# Altium integrated library Cap.IntLib: 84 symbols
Pins are listed as number, name and electrical type; pins without a type are passive.

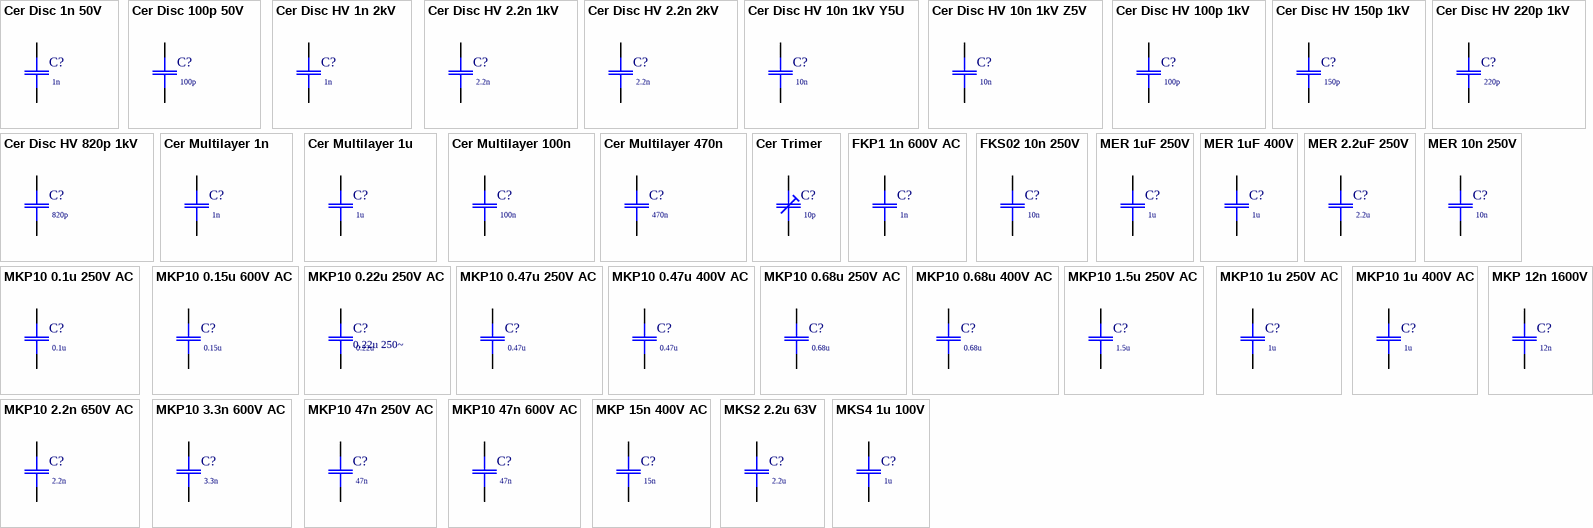
[diagram p0: symbols Cer Disc 1n 50V to MKS4 1u 100V]

## Cer Disc 1n 50V
designator C?, comment 1n
NPO +/- 60pp/C; Tip: Suntan TS15 1nF 50V NPO; Price: 0.072; Value: 1n
footprint Cap-Disk-D5.5-R2.54
simulation model C (Capacitor)
signal-integrity model C
pins: 1, 2
1 alternate drawing of the same symbol

## Cer Disc 100p 50V
designator C?, comment 100p
100p 50V NP0 +/- 60pp; Tip: Suntan TS15 100pF 50V NP0; Price: 0.072; Value: 100p
footprint Cap-Disk-D5.5-R5.08
simulation model C (Capacitor)
signal-integrity model C
pins: 1, 2
1 alternate drawing of the same symbol

## Cer Disc HV 1n 2kV
designator C?, comment 1n
1n 2kV Y5P; Tip: Suntan TS16 1nF 2kV Y5P; Price: 0.072; Value: 1n
footprint Cap-Disk-d8.5-R5.08
simulation model C (Capacitor)
signal-integrity model C
pins: 1, 2
1 alternate drawing of the same symbol

## Cer Disc HV 2.2n 1kV
designator C?, comment 2.2n
2.2n 1kV Y5P; Tip: Suntan TS16 2.2nF 1kV Y5P; Price: 0.072; Value: 2.2n
footprint Cap-Disk-d8.5-R5.08
simulation model C (Capacitor)
signal-integrity model C (Model Description)
pins: 1, 2
1 alternate drawing of the same symbol

## Cer Disc HV 2.2n 2kV
designator C?, comment 2.2n
2.2n 2kV Y5P; Tip: Suntan TS16 2.2nF 2kV Y5P; Price: 0.072; Value: 2.2n
footprint Cer-Disk-D8-R7.62
simulation model C (Capacitor)
signal-integrity model C
pins: 1, 2
1 alternate drawing of the same symbol

## Cer Disc HV 10n 1kV Y5U
designator C?, comment 10n
10n 1kV Y5U; Tip: Suntan TS16 10nF 1kV Y5U; Price: 0.072; Value: 10n
footprint Cer-Disk-d12.5-R7.62
simulation model C (Capacitor)
signal-integrity model C
pins: 1, 2
1 alternate drawing of the same symbol

## Cer Disc HV 10n 1kV Z5V
designator C?, comment 10n
10n 1kV Z5V; Tip: Suntan 10nF 1kV Z5V; Price: 0.072; Value: 10n
footprint Cap-Disk-d8.5-R5.08
simulation model C (Model Description)
signal-integrity model C
pins: 1, 2
1 alternate drawing of the same symbol

## Cer Disc HV 100p 1kV
designator C?, comment 100p
100p 1kV Y5P; Tip: Suntan TS16 100pF 1kV Y5P; Price: 0.072; Value: 100p
footprint Cap-Disk-D5.5-R5.08
simulation model C (Capacitor)
signal-integrity model C
pins: 1, 2
1 alternate drawing of the same symbol

## Cer Disc HV 150p 1kV
designator C?, comment 150p
150p 1kV Y5P; Tip: Suntan TS16 150pF 1kV Y5P; Price: 0.072; Value: 150p
footprint Cap-Disk-D5.5-R5.08
simulation model C (Capacitor)
signal-integrity model C (Model Description)
pins: 1, 2
1 alternate drawing of the same symbol

## Cer Disc HV 220p 1kV
designator C?, comment 220p
220p 1kV Y5P; Tip: Suntan TS16 220pF 1kV Y5P; Price: 0.072; Value: 220p
footprint Cap-Disk-D5.5-R5.08
simulation model C (Capacitor)
signal-integrity model C (Capacitor)
pins: 1, 2
1 alternate drawing of the same symbol

## Cer Disc HV 820p 1kV
designator C?, comment 820p
820p 1kV Y5P; Tip: Suntan 820pF 1kV Y5P; Price: 0.072; Value: 820p
footprint Cap-Disk-D5.5-R5.08
simulation model C (Capacitor)
signal-integrity model C
pins: 1, 2
1 alternate drawing of the same symbol

## Cer Multilayer 1n
designator C?, comment 1n
Ceramic Multilayer 50V X7R; Price: 0.034; Value: 1n
footprint Ceramic Multilayer 3.5x2.5 h3.8 F5.08
simulation model C (Capacitor)
signal-integrity model C
pins: 1, 2
1 alternate drawing of the same symbol

## Cer Multilayer 1u
designator C?, comment 1u
Ceramic Multilayer 50V X7R; Price: 0.05; Value: 1u
footprint Ceramic Multilayer 3.5x2.5 h3.8 F5.08
simulation model C (Capacitor)
signal-integrity model C
pins: 1, 2
1 alternate drawing of the same symbol

## Cer Multilayer 100n
designator C?, comment 100n
Ceramic Multilayer 50V Y5P; Price: 0.034; Value: 100n
footprint Ceramic Multilayer 3.5x2.5 h3.8 F5.08
simulation model C (Capacitor)
signal-integrity model C
pins: 1, 2
1 alternate drawing of the same symbol

## Cer Multilayer 470n
designator C?, comment 470n
Ceramic Multilayer 50V Y5P; Price: 0.05; Value: 470n
footprint Ceramic Multilayer 3.5x2.5 h3.8 F5.08
simulation model C (Capacitor)
signal-integrity model C
pins: 1, 2
1 alternate drawing of the same symbol

## Cer Trimer
designator C?, comment 10p
3-10P; Price: 0.072; Value: 10p
footprint CT-1
simulation model C (Capacitor)
signal-integrity model C
pins: 1, 2
1 alternate drawing of the same symbol

## FKP1 1n 600V AC
designator C?, comment 1n
FKP1 1n 600V AC; Price: 0.486; VALUE: 1n
footprint MKP 18x5 h11 R15.24
simulation model C (Capacitor)
signal-integrity model C
pins: 1, 2
1 alternate drawing of the same symbol

## FKS02 10n 250V
designator C?, comment 10n
FKS02 10n 250V; Price: 0.2; VALUE: 10n
footprint MKP 7.2x2.5 h6.5 R5.08
simulation model C (Capacitor)
signal-integrity model C
pins: 1, 2
1 alternate drawing of the same symbol

## MER 1uF 250V
designator C?, comment 1u
MER 1uF 250V; VALUE: 1u
footprint MER 24x9 h14 R20
simulation model C (Capacitor)
signal-integrity model C
pins: 1, 2
1 alternate drawing of the same symbol

## MER 1uF 400V
designator C?, comment 1u
MER 1uF 400V; VALUE: 1u
footprint MER 30x11 h17.5 R27.5
simulation model C (Capacitor)
signal-integrity model C
pins: 1, 2
1 alternate drawing of the same symbol

## MER 2.2uF 250V
designator C?, comment 2.2u
MER 2.2uF 250V; VALUE: 2.2u
footprint MER 30x11 h17.5 R27.5
simulation model C (Capacitor)
signal-integrity model C
pins: 1, 2
1 alternate drawing of the same symbol

## MER 10n 250V
designator C?, comment 10n
MER 10n 250V; VALUE: 10n
footprint MER 13x5.5 h10 R10.16
simulation model C (Capacitor)
signal-integrity model C
pins: 1, 2
1 alternate drawing of the same symbol

## MKP10 0.1u 250V AC
designator C?, comment 0.1u
MKP10 0.1u 250V AC; Price: 0.5; Value: 0.1u
footprint MKP 18x7 h14 R15.24
simulation model C (Capacitor)
signal-integrity model C
pins: 1, 2
1 alternate drawing of the same symbol

## MKP10 0.15u 600V AC
designator C?, comment 0.15u
MKP10 0.15u 600V AC; Value: 0.15u
footprint MKP 31.5x11 h21 R27.5
simulation model C (Capacitor)
signal-integrity model C (Model Description)
pins: 1, 2
1 alternate drawing of the same symbol

## MKP10 0.22u 250V AC
designator C?, comment 0.22u 250~  value 0.22u
MKP10 0.22u 250V AC; Price: 0.88
footprint MKP 26.5x7 h14 R22.5
simulation model C (Capacitor)
signal-integrity model C
pins: 1, 2
1 alternate drawing of the same symbol

## MKP10 0.47u 250V AC
designator C?, comment 0.47u
MKP10 0.47u 250V AC; Price: 1.25; Value: 0.47u
footprint MKP 26.5x7 h16.5 R22.5
simulation model C (Capacitor)
signal-integrity model C
pins: 1, 2
1 alternate drawing of the same symbol

## MKP10 0.47u 400V AC
designator C?, comment 0.47u
MKP10 0.47u 400V AC; Price: 1.43; Value: 0.47u
footprint MKP 31.5x11 h21 R27.5
simulation model C (Capacitor)
signal-integrity model C
pins: 1, 2
1 alternate drawing of the same symbol

## MKP10 0.68u 250V AC
designator C?, comment 0.68u
MKP10 0.68u 250V AC; Value: 0.68u
footprint MKP 31.5x11 h21 R27.5
simulation model C (Capacitor)
signal-integrity model C
pins: 1, 2
1 alternate drawing of the same symbol

## MKP10 0.68u 400V AC
designator C?, comment 0.68u
MKP10 0.68u 400V AC; Value: 0.68u
footprint MKP 31.5x15 h26 R27.5
simulation model C (Capacitor)
signal-integrity model C
pins: 1, 2
1 alternate drawing of the same symbol

## MKP10 1.5u 250V AC
designator C?, comment 1.5u
MKP10 1.5u 250V AC; Value: 1.5u
footprint MKP 31.5x17 h29 R27.5
simulation model C (Capacitor)
signal-integrity model C
pins: 1, 2
1 alternate drawing of the same symbol

## MKP10 1u 250V AC
designator C?, comment value 1u  (hidden comment: 1u 250~)
MKP10 1u 250V AC; Price: 2.604
footprint MKP 31.5x13 h24 R27.5
simulation model C (Capacitor)
signal-integrity model C
pins: 1, 2
1 alternate drawing of the same symbol

## MKP10 1u 400V AC
designator C?, comment 1u
MKP10 1u 400V AC; Value: 1u
footprint MKP 31.5x17 h29 R27.5
simulation model C (Capacitor)
signal-integrity model C
pins: 1, 2
1 alternate drawing of the same symbol

## MKP10 2.2n 650V AC
designator C?, comment 2.2n
MKP10 2.2n 650V AC; Price: 0.322; Value: 2.2n
footprint MKP 13x4 h9.5 R10
simulation model C (Capacitor)
signal-integrity model C
pins: 1, 2
1 alternate drawing of the same symbol

## MKP10 3.3n 600V AC
designator C?, comment value 3.3n  (hidden comment: 3.3n 600V AC)
MKP10 3.3n 600V AC; Price: 0.322
footprint MKP 13x4 h9.5 R10
simulation model C (Capacitor)
signal-integrity model C
footprint MKP 18x5 h11 R15.24
pins: 1, 2
1 alternate drawing of the same symbol

## MKP10 47n 250V AC
designator C?, comment 47n
MKP10 47n 250V AC; Price: 0.418; Value: 47n
footprint MKP 18x5 h11 R15.24
signal-integrity model C
simulation model C (Capacitor)
pins: 1, 2
1 alternate drawing of the same symbol

## MKP10 47n 600V AC
designator C?, comment 47n
MKP10 47n 600V AC; Value: 47n
footprint MKP 26.5x7 h14 R22.5
simulation model C (Capacitor)
signal-integrity model C (Model Description)
pins: 1, 2
1 alternate drawing of the same symbol

## MKP 12n 1600V
designator C?, comment 12n
MKP 12n 1600V; Value: 12n
footprint MKP 26.5x8.5 h18.5 R22.5
simulation model C (Capacitor)
signal-integrity model C
pins: 1, 2
1 alternate drawing of the same symbol

## MKP 15n 400V AC
designator C?, comment 15n
MKP 15n 400V AC; Value: 15n
footprint MKP 26.5x8.5 h18.5 R22.5
simulation model C (Capacitor)
signal-integrity model C
pins: 1, 2
1 alternate drawing of the same symbol

## MKS2 2.2u 63V
designator C?, comment 2.2u
MKS2 2.2u 63V; Price: 0.65; Value: 2.2u
footprint MKP 7.2x7.2 h13 R5.08
simulation model C (Capacitor)
signal-integrity model C
pins: 1, 2
1 alternate drawing of the same symbol

## MKS4 1u 100V
designator C?, comment 1u
MKS4 1u 100V; Price: 0.53; Value: 1u
footprint MKP 10x5.7 h12.5 R7.62
simulation model C (Capacitor)
signal-integrity model C
pins: 1, 2
1 alternate drawing of the same symbol

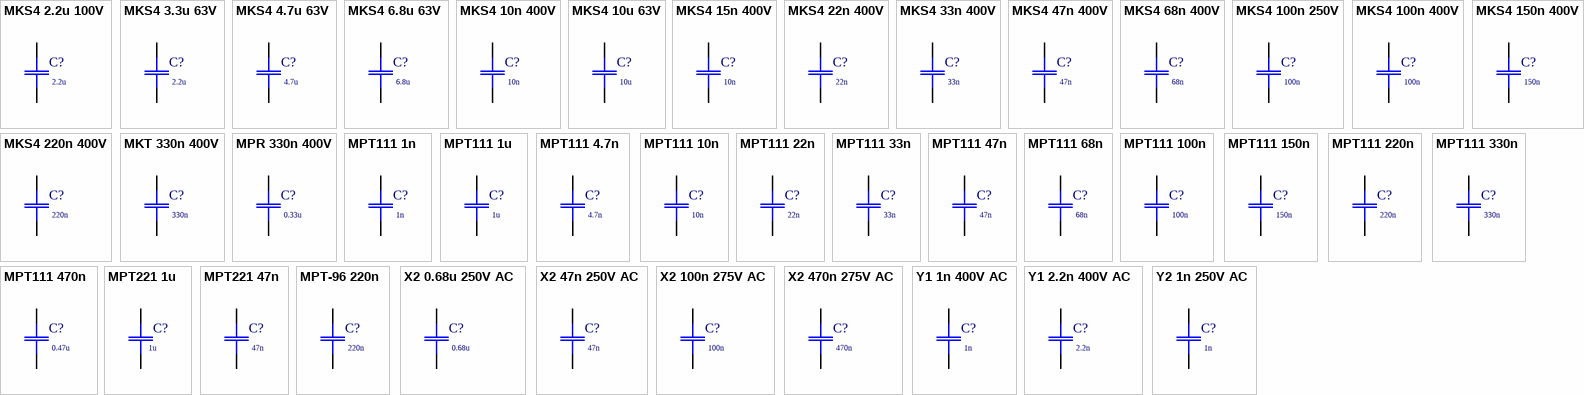
[diagram p1: symbols MKS4 2.2u 100V to Y2 1n 250V AC]

## MKS4 2.2u 100V
designator C?, comment 2.2u
MKS4 2.2u 100V; Value: 2.2u
footprint MKP 18x8 h15 R15.24
simulation model C (Capacitor)
signal-integrity model C
pins: 1, 2
1 alternate drawing of the same symbol

## MKS4 3.3u 63V
designator C?, comment value 2.2u  (hidden comment: 3,3u)
MKS4 3.3u 63V; Tip: MKS4 3.3uF 63V 10%; Price: 2
footprint MKP 18x7 h14 R15.24
simulation model C (Capacitor)
signal-integrity model C
pins: 1, 2
1 alternate drawing of the same symbol

## MKS4 4.7u 63V
designator C?, comment 4.7u
MKS4 4.7u 63V; Tip: MKS4 4.7uF 63V 10%; Price: 2; Value: 4.7u
footprint MKP 18x8 h15 R15.24
simulation model C (Capacitor)
signal-integrity model C
pins: 1, 2
1 alternate drawing of the same symbol

## MKS4 6.8u 63V
designator C?, comment 6.8u
MKS4 6.8u 63V; Tip: MKS4 6.8uF 63V 10%; Price: 2; Value: 6.8u
footprint MKP 26.5x7 h16.5 R22.5
simulation model C (Capacitor)
signal-integrity model C
pins: 1, 2
1 alternate drawing of the same symbol

## MKS4 10n 400V
designator C?, comment 10n
MKS4 10n 400V; Price: 0.166; Value: 10n
footprint MKP 7.2x3.5 h8.5 R5.08
signal-integrity model C
simulation model C (Model Description)
pins: 1, 2
1 alternate drawing of the same symbol

## MKS4 10u 63V
designator C?, comment 10u
MKS4 10u 63V; Tip: MKS4 10uF 63V 10%; Price: 2.56; Value: 10u
footprint MKP 26.5x8.5 h18.5 R22.5
simulation model C (Capacitor)
signal-integrity model C
pins: 1, 2
1 alternate drawing of the same symbol

## MKS4 15n 400V
designator C?, comment 10n
MKS4 15n 400V; Value: 10n
footprint MKP 10x4 h9 R7.62
simulation model C (Capacitor)
signal-integrity model C
pins: 1, 2
1 alternate drawing of the same symbol

## MKS4 22n 400V
designator C?, comment 22n
MKS4 22n 400V; Price: 0.23; Value: 22n
footprint MKP 10x4.5 h9.5 R7.62
simulation model C (Capacitor)
signal-integrity model C
pins: 1, 2
1 alternate drawing of the same symbol

## MKS4 33n 400V
designator C?, comment 33n
MKS4 33n 400V; Value: 33n
footprint MKP 10x5 h10.5 R7.62
simulation model C (Capacitor)
signal-integrity model C
pins: 1, 2
1 alternate drawing of the same symbol

## MKS4 47n 400V
designator C?, comment 47n
MKS4 47n 400V; Value: 47n
footprint MKP 10x5.7 h12.5 R7.62
simulation model C (Capacitor)
signal-integrity model C
pins: 1, 2
1 alternate drawing of the same symbol

## MKS4 68n 400V
designator C?, comment 68n
MKS4 68n 400V; Value: 68n
footprint MKP 13x5 h11 R10
simulation model C (Capacitor)
signal-integrity model C
pins: 1, 2
1 alternate drawing of the same symbol

## MKS4 100n 250V
designator C?, comment 100n
MKS4 100n 250V; Price: 0.23; Value: 100n
footprint MKP 10x5 h10.5 R7.62
simulation model C (Capacitor)
signal-integrity model C
pins: 1, 2
1 alternate drawing of the same symbol

## MKS4 100n 400V
designator C?, comment 100n
MKS4 100n 400V; Value: 100n
footprint MKP 13x6 h12 R10
simulation model C (Capacitor)
signal-integrity model C
pins: 1, 2
1 alternate drawing of the same symbol

## MKS4 150n 400V
designator C?, comment 150n
MKS4 150n 400V; Value: 150n
footprint MKP 18x6 h12.5 R15.24
simulation model C (Capacitor)
signal-integrity model C
pins: 1, 2
1 alternate drawing of the same symbol

## MKS4 220n 400V
designator C?, comment 220n
MKS4 220n 400V; Value: 220n
footprint MKP 18x7 h14 R15.24
simulation model C (Capacitor)
signal-integrity model C
pins: 1, 2
1 alternate drawing of the same symbol

## MKT 330n 400V
designator C?, comment 330n
MKT 330n 400V; Value: 330n
footprint MKP 18x8 h15 R15.24
simulation model C (Capacitor)
signal-integrity model C
pins: 1, 2
1 alternate drawing of the same symbol

## MPR 330n 400V
designator C?, comment 0.33u
MPR 330nF 400V; Value: 0.33u
footprint MER 24x9 h14 R20
simulation model C (Capacitor)
signal-integrity model C
pins: 1, 2
1 alternate drawing of the same symbol

## MPT111 1n
designator C?, comment 1n
MPT111-1n 63V (TS05 Suntn); Price: 0.034; Value: 1n
footprint MPT111-7.5x2.5-h6.5-R5.08
simulation model C (Capacitor)
signal-integrity model C
pins: 1, 2
1 alternate drawing of the same symbol

## MPT111 1u
designator C?, comment 1u
MPT111 1u 63V (TS05 Suntn); Price: 0.324; Value: 1u
footprint MPT111-7.5x5-h8.5-R5.08
simulation model C (Capacitor)
signal-integrity model C
pins: 1, 2
1 alternate drawing of the same symbol

## MPT111 4.7n
designator C?, comment 4.7n
MPT111 4.7n 63V (TS05 Suntn); Price: 0.038; Value: 4.7n
footprint MPT111-7.5x2.5-h6.5-R5.08
simulation model C (Capacitor)
signal-integrity model C
pins: 1, 2
1 alternate drawing of the same symbol

## MPT111 10n
designator C?, comment 10n
MPT111 10n 63V (TS05 Suntn); Price: 0.038; Value: 10n
footprint MPT111-7.5x2.5-h6.5-R5.08
simulation model C (Capacitor)
signal-integrity model C
pins: 1, 2
1 alternate drawing of the same symbol

## MPT111 22n
designator C?, comment 22n
MPT111 22n 63V (TS05 Suntn); Price: 0.038; Value: 22n
footprint MPT111-7.5x2.5-h6.5-R5.08
simulation model C (Capacitor)
signal-integrity model C
pins: 1, 2
1 alternate drawing of the same symbol

## MPT111 33n
designator C?, comment 33n
MPT111-33n 63V (TS05 Suntn); Price: 0.04; Value: 33n
footprint MPT111-7.5x2.5-h6.5-R5.08
signal-integrity model C
simulation model C (Model Description)
pins: 1, 2
1 alternate drawing of the same symbol

## MPT111 47n
designator C?, comment 47n
MPT111 47n-63V (TS05 Suntn); Price: 0.042; Value: 47n
footprint MPT111-7.5x2.5-h6.5-R5.08
simulation model C (Capacitor)
signal-integrity model C
pins: 1, 2
1 alternate drawing of the same symbol

## MPT111 68n
designator C?, comment 68n
MPT111 68n-63V (TS05 Suntn); Price: 0.042; Value: 68n
footprint MPT111-7.5x2.5-h6.5-R5.08
simulation model C (Capacitor)
signal-integrity model C
pins: 1, 2
1 alternate drawing of the same symbol

## MPT111 100n
designator C?, comment 100n
MPT11 100n 63V (TS05 Suntn); Price: 0.046; Value: 100n
footprint MPT111-7.5x2.5-h6.5-R5.08
simulation model C (Capacitor)
signal-integrity model C
pins: 1, 2
1 alternate drawing of the same symbol

## MPT111 150n
designator C?, comment 150n
MPT111-150n 63V (TS05 Suntn); Price: 0.055; Value: 150n
footprint MPT111-7.5x5-h8.5-R5.08
simulation model C (Capacitor)
signal-integrity model C
pins: 1, 2
1 alternate drawing of the same symbol

## MPT111 220n
designator C?, comment 220n
MPT111-220n 63V (TS05 Suntn); Price: 0.055; Value: 220n
footprint MPT111-7.5x5-h8.5-R5.08
simulation model C (Capacitor)
signal-integrity model C
pins: 1, 2
1 alternate drawing of the same symbol

## MPT111 330n
designator C?, comment 330n
MPT111 330n 63V (TS05 Suntn); Price: 0.137; Value: 330n
footprint MPT111-7.5x5-h8.5-R5.08
simulation model C (Capacitor)
signal-integrity model C
pins: 1, 2
1 alternate drawing of the same symbol

## MPT111 470n
designator C?, comment 0.47u
MPT111-470n 63V (TS05 Suntn); Price: 0.145; Value: 0.47u
footprint MPT111-7.5x5-h8.5-R5.08
simulation model C (Capacitor)
signal-integrity model C
pins: 1, 2
1 alternate drawing of the same symbol

## MPT221 1u
designator C?, comment 1u
MPT221 1u 400V; Price: 0.35; Value: 1u
footprint MPT221 33x9.5 h17 R31
simulation model C (Capacitor)
signal-integrity model C
pins: 1, 2
1 alternate drawing of the same symbol

## MPT221 47n
designator C?, comment 47n
MPT 221 47n 630V; Price: 0.25; Value: 47n
footprint MPT111-7.5x2.5-h6.5-R5.08
simulation model C (Capacitor)
signal-integrity model C
pins: 1, 2
1 alternate drawing of the same symbol

## MPT-96 220n
designator C?, comment 220n
MPT-96 220n 400V; Value: 220n
footprint MPT-96 220n 400V
simulation model C (Capacitor)
signal-integrity model C
pins: 1, 2
1 alternate drawing of the same symbol

## X2 0.68u 250V AC
designator C?, comment 0.68u
X2 250V AC; Price: 0.36; Value: 0.68u
footprint MKP 18x11 h19 R15.24
simulation model C (Capacitor)
signal-integrity model C
footprint MKP X2 470nF 275V AC - Hor
pins: 1, 2
1 alternate drawing of the same symbol

## X2 47n 250V AC
designator C?, comment 47n
X2 250V AC; Price: 0.12; Value: 47n
footprint MKP X2 47nF 275V AC
signal-integrity model C (Model Description)
simulation model C (Model Description)
pins: 1, 2
1 alternate drawing of the same symbol

## X2 100n 275V AC
designator C?, comment 100n
X2 250V AC; Price: 0.15; Value: 100n
footprint MKP X2 100nF 275V AC
simulation model C (Capacitor)
signal-integrity model C
pins: 1, 2
1 alternate drawing of the same symbol

## X2 470n 275V AC
designator C?, comment 470n
X2 250V AC; Price: 0.36; Value: 470n
footprint MKP X2 470nF 275V AC
simulation model C (Capacitor)
signal-integrity model C
footprint MKP X2 470nF 275V AC - Hor
pins: 1, 2
1 alternate drawing of the same symbol

## Y1 1n 400V AC
designator C?, comment 1n
Y1 400V AC Y5P; Tip: Ceramic  Disc Y1 1nF 400VAC Y5P; Price: 0.1; Value: 1n
footprint C Y2 7.5a
simulation model C (Capacitor)
signal-integrity model C
pins: 1, 2
1 alternate drawing of the same symbol

## Y1 2.2n 400V AC
designator C?, comment 2.2n
Y1 400V AC Y5P; Tip: Ceramic  Disc Y1 1nF 400VAC Y5P; Price: 0.135; Value: 2.2n
footprint C Y2 10a
footprint C Y2 10
simulation model C (Capacitor)
signal-integrity model C
footprint C Y2 10b
pins: 1, 2
1 alternate drawing of the same symbol

## Y2 1n 250V AC
designator C?, comment 1n
Y2 250V AC Y5P; Tip: Ceramic  Disc Y2 1nF 250VAC Y5P; Price: 0.1; Value: 1n
footprint C Y2 7.5b
simulation model C (Capacitor)
signal-integrity model C
pins: 1, 2
1 alternate drawing of the same symbol

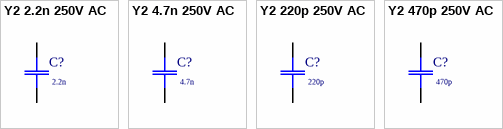
[diagram p2: symbols Y2 2.2n 250V AC to Y2 470p 250V AC]

## Y2 2.2n 250V AC
designator C?, comment 2.2n
Y2 250V AC Y5P; Tip: Ceramic  Disc Y2 2.2nF 250VAC Y5P; Price: 0.065; Value: 2.2n
footprint C Y2 10a
signal-integrity model C
simulation model C (Capacitor)
footprint C Y2 10b
pins: 1, 2
1 alternate drawing of the same symbol

## Y2 4.7n 250V AC
designator C?, comment 4.7n
Y2 250V AC Y5P; Tip: Ceramic Disc Y2 2.2nF 250VAC Y5P; Price: 0.121; Value: 4.7n
footprint C Y2 D13 7.5
footprint C Y2 D13 7.5a
simulation model C (Capacitor)
signal-integrity model C
pins: 1, 2
1 alternate drawing of the same symbol

## Y2 220p 250V AC
designator C?, comment 220p
Y2 250V AC Y5P; Tip: Ceramic Disc Y2 220pF 250VAC Y5P; Price: 0.1; Value: 220p
footprint C Y2 7.5
footprint C Y2 7.5a
simulation model C (Capacitor)
signal-integrity model C
pins: 1, 2
1 alternate drawing of the same symbol

## Y2 470p 250V AC
designator C?, comment 470p
Y2 250V AC Y5P; Tip: Ceramic Disc Y2 470pF 250VAC Y5P; Price: 0.1; Value: 470p
footprint C Y2 7.5
footprint C Y2 7.5a (Model Description)
simulation model C (Capacitor)
signal-integrity model C
pins: 1, 2
1 alternate drawing of the same symbol